# EAGLE library part 691322310011 (library Eagle_WR-TBL Pluggable Connector (rev21a))
WR-TBL Serie 322 - 3.81 mm Horizontal PCB Header KIND PROPERTIES Pitch 3.81 mm MATERIAL PROPERTIES Insulator Material PA66 Insulator Flammability Rating UL94 V-0 Contact Material Brass Contact Plating Tin GENERAL INFORMATION Operating Temperature -40 up to +105 °C Compliance RoHS ELECTRICAL PROPERTIES IR cULus 10 A IR VDE 10.5 A Working Voltage [cULus] 300 V (AC) Working Voltage [VDE] 300 V (AC) Withstanding Voltage [cULus] 1600 V (AC) Withstanding Voltage [VDE] 2500 V (AC) Contact Resistance [cULus] 20 mΩ Contact Resistance [VDE] 20 mΩ CERTIFICATION cULus Approval E315414 VDE Approval 40023195 <https://www.we-online.com/catalog/media/o33277v209%20Family_WR-TBL_6913223100xx.jpg> Details see: https://www.we-online.com/catalog/en/TBL_3_81_322_HORIZONTAL_PCB_HEADER_6913223100XX/ Updated by Ella Wu 2019-12-20 2019(C) Wurth Elektronik
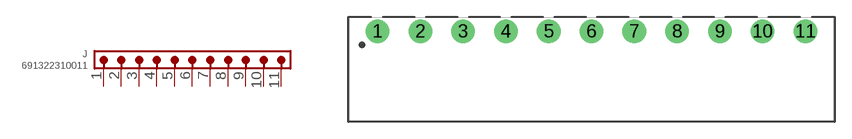
[diagram p120: symbol with the pads of 691322310011; footprint 691322310011]

Designator prefix J

## 691322310011 (DATASHEET-URL: https://www.we-online.com/catalog/datasheet/691322310011.pdf; IR-UL: 10A; IR-VDE: 10.5A; MOUNT: THT; PART-NUMBER: 691322310011; PINS: 11; PITCH: 3.81mm; TYPE: Horizontal; VALUE: 691322310011; WORKING-VOLTAGE-UL: 300V (AC); WORKING-VOLTAGE-VDE: 300V (AC))  [691322310011]
1  1  pas
2  2  pas
3  3  pas
4  4  pas
5  5  pas
6  6  pas
7  7  pas
8  8  pas
9  9  pas
10  10  pas
11  11  pas

## Footprint 691322310011 (pad centres in mm)
WR-TBL Serie 322 - 3.81 mm Horizontal PCB Header Max Height = 7mm , Pitch 3.81mm , 11pins
drill 1.4: 1 -19.05,0; 2 -15.24,0; 3 -11.43,0; 4 -7.62,0; 5 -3.81,0; 6 0,0; 7 3.81,0; 8 7.62,0; 9 11.43,0; 10 15.24,0; 11 19.05,0